# Altium schematic symbol library B2PS-VHLFSN.SchLib: 2 symbols
Pins are listed as number, name and electrical type; pins without a type are passive.

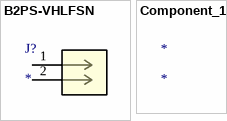
[diagram p0: symbols B2PS-VHLFSN to Component_1]

## B2PS-VHLFSN
designator J?
No Description Available; Mfr_Name: JST; RefDes: RefDes; Type: Type
footprint CONN_B2PS-VH_JST
pins: 1, 2

## Component_1
designator *